# EAGLE library part LM2664 (library Inverter)
The LM2664 CMOS charge-pump voltage converter inverts a positive voltage in the range of 1.8 V to 5.5 V to the corresponding negative voltage of −1.8 V to −5.5 V. The device uses two low-cost capacitors to provide up to 40 mA of output current. The LM2664 operates at 160-kHz oscillator frequency to reduce output resistance and voltage ripple. With(operating with most loads) and 1- μA typical shutdown current, the LM2664 provides ideal performance for battery-powered systems.
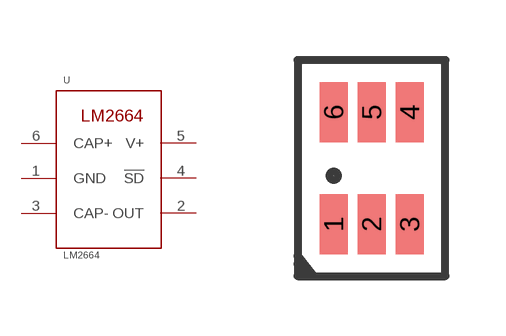
[diagram p0: symbol with the pads of SOT-23-6; footprint SOT-23-6]

Designator prefix U

## LM2664  [SOT-23-6]
1  GND  pwr
2  OUT  pwr
3  CAP-  pwr
4  !SD!  pwr
5  V+  pwr
6  CAP+  pwr

## Footprint SOT-23-6 (pad centres in mm)
smd 0.7 x 1.5: 1 0,0; 2 0.95,0; 3 1.9,0; 4 1.9,2.8; 5 0.95,2.8; 6 0,2.8